# Altium schematic symbol library Triacs.SchLib: 5 symbols
Pins are listed as number, name and electrical type; pins without a type are passive.

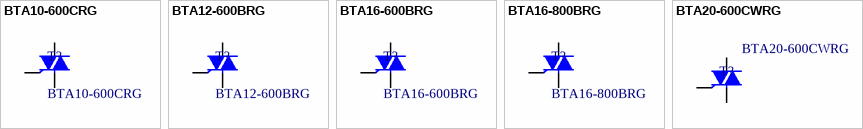
[diagram p0: symbols BTA10-600CRG to BTA20-600CWRG]

## BTA10-600CRG
designator T?, comment Manufacturer Part Number: BTA10-600CRG  (hidden comment: TRIAC Standard 600 V 10 A Through Hole TO-220)
BTA10 Series 600 Vdrm 10 A Flange Mount Standard Triac Thyristor - TO-220AB; Manufacturer: STMicroelectronics; Designer: TVBac; Supplier: Future Electronics; Supplier Part Number: 6148436; RoHS: Yes; Category: TRIACs; Stock: 100; Pricing: 1=0.45, 100=0.43, 300=0.415, 1250=0.4, 4000=0.37 (USD); ComponentLink1URL: https://datasheet.ciiva.com/15140/getdatasheetpartid-146660-15140537.pdf?src-supplier=Verical; ComponentLink1Description: https://datasheet.ciiva.com/15140/getdatasheetpartid-146660-15140537.pdf?src-supplier=Verical; ComponentLink2URL: https://datasheet.ciiva.com/4748/cd00004894-4748606.pdf?src-supplier=Mouser; ComponentLink2Description: https://datasheet.ciiva.com/4748/cd00004894-4748606.pdf?src-supplier=Mouser; ComponentLink3URL: https://datasheet.ciiva.com/1197/127471-1197121.pdf?src-supplier=Element14; ComponentLink3Description: https://datasheet.ciiva.com/1197/127471-1197121.pdf?src-supplier=Element14; ComponentLink4URL: https://datasheet.ciiva.com/16385/cd00004894-16385819.pdf?src-supplier=Future+Electronics; ComponentLink4Description: https://datasheet.ciiva.com/16385/cd00004894-16385819.pdf?src-supplier=Future+Electronics; ComponentLink5Description: Link Digikey; ComponentLink5URL: https://www.digikey.com/en/products/detail/stmicroelectronics/BTA10-600CRG/1037713
footprint TO-220-3-STM
pins: 1 A1, 2 A2, 3 G

## BTA12-600BRG
designator T?, comment Manufacturer Part Number: BTA12-600BRG  (hidden comment: TRIAC Standard 600 V 12 A Through Hole TO-220)
TRIAC 600V 12A TO220AB; Manufacturer: STMicroelectronics; Designer: TVBac; Supplier: Future Electronics; Supplier Part Number: 2549434; RoHS: Yes; Category: TRIACs; Stock: 10400; Pricing: 50=0.41, 400=0.395, 1500=0.38, 4000=0.37, 10000=0.35 (USD); ComponentLink1URL: https://datasheet.ciiva.com/15140/getdatasheetpartid-146661-15140538.pdf?src-supplier=Verical; ComponentLink1Description: https://datasheet.ciiva.com/15140/getdatasheetpartid-146661-15140538.pdf?src-supplier=Verical; ComponentLink2URL: https://datasheet.ciiva.com/14164/bta12-eng-tds-14164177.pdf?src-supplier=Distrelec; ComponentLink2Description: https://datasheet.ciiva.com/14164/bta12-eng-tds-14164177.pdf?src-supplier=Distrelec; ComponentLink3URL: https://datasheet.ciiva.com/3053/cd00002267-3053549.pdf?src-supplier=Avnet; ComponentLink3Description: https://datasheet.ciiva.com/3053/cd00002267-3053549.pdf?src-supplier=Avnet; ComponentLink4URL: https://datasheet.ciiva.com/4749/cd00002267-4749019.pdf?src-supplier=Mouser; ComponentLink4Description: https://datasheet.ciiva.com/4749/cd00002267-4749019.pdf?src-supplier=Mouser; ComponentLink5URL: https://datasheet.ciiva.com/1197/1717978-1197123.pdf?src-supplier=Element14; ComponentLink5Description: https://datasheet.ciiva.com/1197/1717978-1197123.pdf?src-supplier=Element14; ComponentLink6Description: Link Digikey; ComponentLink6URL: https://www.digikey.com/en/products/detail/stmicroelectronics/BTA12-600BRG/603413
footprint TO-220-3-STM
pins: 1 A1, 2 A2, 3 G

## BTA16-600BRG
designator T?, comment Manufacturer Part Number: BTA16-600BRG  (hidden comment: TRIAC Standard 600 V 16 A Through Hole TO-220)
TRIAC Standard 600V 16A Through Hole TO-220AB; Manufacturer: STMicroelectronics; Hold Current: 50mA; Designer: TVBac; Supplier: Avnet; Supplier Part Number: BTA16-600BRG; RoHS: Yes; Category: TRIACs; Stock: 2168; Pricing: 1000=0.50698, 1100=0.50442, 2100=0.43037, 5000=0.42255, 10000=0.415 (USD); Mounting Technology: Through Hole; Case/Package: TO-220AB; Pins: 3; Weight: 0.211644oz; Contact Plating: Tin,Matte; Min Operating Temperature: -40°C; Max Operating Temperature: 125°C; Packaging: Rail/Tube; Current Rating: 16A; Voltage Rating (DC): 600V; Package Quantity: 1000; RMS Current (Irms): 16A; Max Repetitive Reverse Voltage (Vrrm): 600V; Series: -; Length: 10.4mm; Width: 4.6mm; Height: 15.9mm; Radiation Hardening: No; Reach SVHC Compliant: No; Lead Free: Lead Free; RoHS Compliant: Yes; ComponentLink1URL: https://datasheet.ciiva.com/15140/getdatasheetpartid-185587-15140605.pdf?src-supplier=Verical; ComponentLink1Description: https://datasheet.ciiva.com/15140/getdatasheetpartid-185587-15140605.pdf?src-supplier=Verical; ComponentLink2URL: https://datasheet.ciiva.com/1198/1699992-1198139.pdf?src-supplier=Element14; ComponentLink2Description: https://datasheet.ciiva.com/1198/1699992-1198139.pdf?src-supplier=Element14; ComponentLink3URL: https://datasheet.ciiva.com/14164/tfstm-triacs-bta-btb-16-xxx-en-14164139.pdf?src-supplier=Distrelec; ComponentLink3Description: https://datasheet.ciiva.com/14164/tfstm-triacs-bta-btb-16-xxx-en-14164139.pdf?src-supplier=Distrelec; ComponentLink4URL: https://datasheet.ciiva.com/4748/cd00002265-4748742.pdf?src-supplier=Mouser; ComponentLink4Description: https://datasheet.ciiva.com/4748/cd00002265-4748742.pdf?src-supplier=Mouser; ComponentLink5URL: https://datasheet.ciiva.com/1218/1699992-1218264.pdf?src-supplier=Farnell; ComponentLink5Description: https://datasheet.ciiva.com/1218/1699992-1218264.pdf?src-supplier=Farnell; ComponentLink6URL: https://datasheet.ciiva.com/1197/1699992-1197134.pdf?src-supplier=Element14; ComponentLink6Description: https://datasheet.ciiva.com/1197/1699992-1197134.pdf?src-supplier=Element14; ComponentLink7URL: https://datasheet.ciiva.com/3054/cd00002265-3054339.pdf?src-supplier=Avnet; ComponentLink7Description: https://datasheet.ciiva.com/3054/cd00002265-3054339.pdf?src-supplier=Avnet; ComponentLink8URL: https://datasheet.ciiva.com/16397/cd00002265-16397087.pdf?src-supplier=Future+Electronics; ComponentLink8Description: https://datasheet.ciiva.com/16397/cd00002265-16397087.pdf?src-supplier=Future+Electronics; ComponentLink9Description: Link Digikey; ComponentLink9URL: https://www.digikey.com/en/products/detail/stmicroelectronics/BTA16-600BRG/603422
footprint TO-220-3-STM
pins: 1 A1, 2 A2, 3 G

## BTA16-800BRG
designator T?, comment Manufacturer Part Number: BTA16-800BRG  (hidden comment: TRIAC Standard 800 V 16 A Through Hole TO-220)
BTA16 Series 800 Vdrm 16 A Flange Mount Standard Triac Thyristor - TO-220AB; Manufacturer: STMicroelectronics; Current Rating: 16A; Voltage Rating (DC): 800V; Peak Non-Repetitive Surge Current: 160A; Designer: TVBac; Supplier: Future Electronics; Supplier Part Number: 4219853; RoHS: Yes; Category: TRIACs; Stock: 78915; Pricing: 1=0.515, 100=0.495, 250=0.48, 1000=0.455, 2500=0.425 (USD); Lead Free: 5697LeadFree; ComponentLink1URL: https://datasheet.ciiva.com/15140/getdatasheetpartid-132878-15140497.pdf?src-supplier=Verical; ComponentLink1Description: https://datasheet.ciiva.com/15140/getdatasheetpartid-132878-15140497.pdf?src-supplier=Verical; ComponentLink2URL: https://datasheet.ciiva.com/4749/cd00002265-4749798.pdf?src-supplier=Mouser; ComponentLink2Description: https://datasheet.ciiva.com/4749/cd00002265-4749798.pdf?src-supplier=Mouser; ComponentLink3URL: https://datasheet.ciiva.com/1197/1699992-1197186.pdf?src-supplier=Element14; ComponentLink3Description: https://datasheet.ciiva.com/1197/1699992-1197186.pdf?src-supplier=Element14; ComponentLink4URL: https://datasheet.ciiva.com/14164/bta16-st-tds-eng-14164141.pdf?src-supplier=Distrelec; ComponentLink4Description: https://datasheet.ciiva.com/14164/bta16-st-tds-eng-14164141.pdf?src-supplier=Distrelec; ComponentLink5URL: https://datasheet.ciiva.com/16396/cd00002265-16396391.pdf?src-supplier=Future+Electronics; ComponentLink5Description: https://datasheet.ciiva.com/16396/cd00002265-16396391.pdf?src-supplier=Future+Electronics; ComponentLink6Description: Link Digikey; ComponentLink6URL: https://www.digikey.com/en/products/detail/stmicroelectronics/BTA16-800BRG/603433
footprint TO-220-3-STM
pins: 1 A1, 2 A2, 3 G

## BTA20-600CWRG
designator T?, comment Manufacturer Part Number: BTA20-600CWRG  (hidden comment: TRIAC Alternistor - Snubberless 600 V 20 A Through Hole TO-220)
BTA20 Series 600 Vdrm 20 A Flange Mount Snubberless Triac Thyristor - TO-220AB; Manufacturer: STMicroelectronics; Designer: TVBac; Supplier: Mouser; Supplier Part Number: 511-BTA20-600CW; RoHS: Yes; Category: TRIACs; Stock: 540; Pricing: 1=1.42, 10=1.14, 50=1.14, 100=0.901, 1000=0.622, 10000=0.521 (USD); ComponentLink1URL: https://datasheet.ciiva.com/1197/1689731-1197189.pdf?src-supplier=Element14; ComponentLink1Description: https://datasheet.ciiva.com/1197/1689731-1197189.pdf?src-supplier=Element14; ComponentLink2URL: https://datasheet.ciiva.com/15140/getdatasheetpartid-65451-15140326.pdf?src-supplier=Verical; ComponentLink2Description: https://datasheet.ciiva.com/15140/getdatasheetpartid-65451-15140326.pdf?src-supplier=Verical; ComponentLink3Description: Link Digikey; ComponentLink3URL: https://www.digikey.com/en/products/detail/stmicroelectronics/BTA20-600CWRG/669147
footprint TO-220-3-STM
pins: 1 A1, 2 A2, 3 G